# Altium schematic symbol library WR-TNC.SchLib: 5 symbols
Pins are listed as number, name and electrical type; pins without a type are passive.

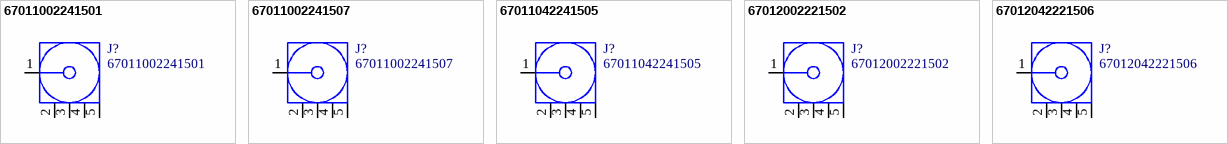
[diagram p0: symbols 67011002241501 to 67012042221506]

## 67011002241501
designator J?
WR-TNC TNC PCB Connector, THT Right Angle Jack, DC~6 GHz, 50Ω; Manufacturer: Wurth Elektronik; Interface Type: MIL-STD-348; Manufacturer Part Number: 67011002241501; Category: Coaxial Connector; Match Code: WR-TNC; ComponentLink1Description: Website Link; ComponentLink1URL: https://www.we-online.com/redexpert/article/67011002241501?ad; ComponentLink2Description: Datasheet Link; ComponentLink2URL: https://www.we-online.com/redexpert/spec/67011002241501?ad; Mount: Through Hole; Min Operating Temperature: -65°C; Max Operating Temperature: 165°C; Packaging: Tray; Connector Type: TNC; Frequency Range: DC~6 GHz; Gender: Jack; Impedance: 50Ω; Orientation: Right Angle
footprint 67011002241501
pins: 1 Signal "Signal Pin", 2 GND, 3 GND, 4 GND, 5 GND

## 67011002241507
designator J?
WR-TNC TNC PCB Connector, THT Right Angle Jack, DC~6 GHz, 50Ω; Manufacturer: Wurth Elektronik; Interface Type: MIL-STD-348; Manufacturer Part Number: 67011002241507; Category: Coaxial Connector; Match Code: WR-TNC; ComponentLink1Description: Website Link; ComponentLink1URL: https://www.we-online.com/redexpert/article/67011002241507?ad; ComponentLink2Description: Datasheet Link; ComponentLink2URL: https://www.we-online.com/redexpert/spec/67011002241507?ad; Mount: Through Hole; Min Operating Temperature: -65°C; Max Operating Temperature: 165°C; Packaging: Tray; Connector Type: TNC; Frequency Range: DC~6 GHz; Gender: Jack; Impedance: 50Ω; Orientation: Right Angle
footprint 67011002241507
pins: 1 Signal "Signal Pin", 2 GND, 3 GND, 4 GND, 5 GND

## 67011042241505
designator J?
WR-TNC TNC PCB Connector, THT Right Angle Jack, DC~6 GHz, 50Ω; Manufacturer: Wurth Elektronik; Interface Type: MIL-STD-348; Manufacturer Part Number: 67011042241505; Category: Coaxial Connector; Match Code: WR-TNC; ComponentLink1Description: Website Link; ComponentLink1URL: https://www.we-online.com/redexpert/article/67011042241505?ad; ComponentLink2Description: Datasheet Link; ComponentLink2URL: https://www.we-online.com/redexpert/spec/67011042241505?ad; Mount: Through Hole; Min Operating Temperature: -65°C; Max Operating Temperature: 165°C; Packaging: Tray; Connector Type: TNC; Frequency Range: DC~6 GHz; Gender: Jack; Impedance: 50Ω; Orientation: Right Angle
footprint 67011042241505
pins: 1 Signal "Signal Pin", 2 GND, 3 GND, 4 GND, 5 GND

## 67012002221502
designator J?
WR-TNC TNC PCB Connector, THT Straight Jack, DC~11 GHz, 50Ω; Manufacturer: Wurth Elektronik; Interface Type: MIL-STD-348; Manufacturer Part Number: 67012002221502; Category: Coaxial Connector; Match Code: WR-TNC; ComponentLink1Description: Website Link; ComponentLink1URL: https://www.we-online.com/redexpert/article/67012002221502?ad; ComponentLink2Description: Datasheet Link; ComponentLink2URL: https://www.we-online.com/redexpert/spec/67012002221502?ad; Mount: Through Hole; Min Operating Temperature: -65°C; Max Operating Temperature: 165°C; Packaging: Tray; Connector Type: TNC; Frequency Range: DC~11 GHz; Gender: Jack; Impedance: 50Ω; Orientation: Straight
footprint 67012002221502
pins: 1 Signal "Signal Pin", 2 GND, 3 GND, 4 GND, 5 GND

## 67012042221506
designator J?
WR-TNC TNC PCB Connector, THT Straight Jack, DC~6 GHz, 50Ω; Manufacturer: Wurth Elektronik; Interface Type: MIL-STD-348; Manufacturer Part Number: 67012042221506; Category: Coaxial Connector; Match Code: WR-TNC; ComponentLink1Description: Website Link; ComponentLink1URL: https://www.we-online.com/redexpert/article/67012042221506?ad; ComponentLink2Description: Datasheet Link; ComponentLink2URL: https://www.we-online.com/redexpert/spec/67012042221506?ad; Mount: Through Hole; Min Operating Temperature: -65°C; Max Operating Temperature: 165°C; Packaging: Tray; Connector Type: TNC; Frequency Range: DC~6 GHz; Gender: Jack; Impedance: 50Ω; Orientation: Straight
footprint 67012042221506
pins: 1 Signal "Signal Pin", 2 GND, 3 GND, 4 GND, 5 GND